# EAGLE library part EXPANDER (library library)
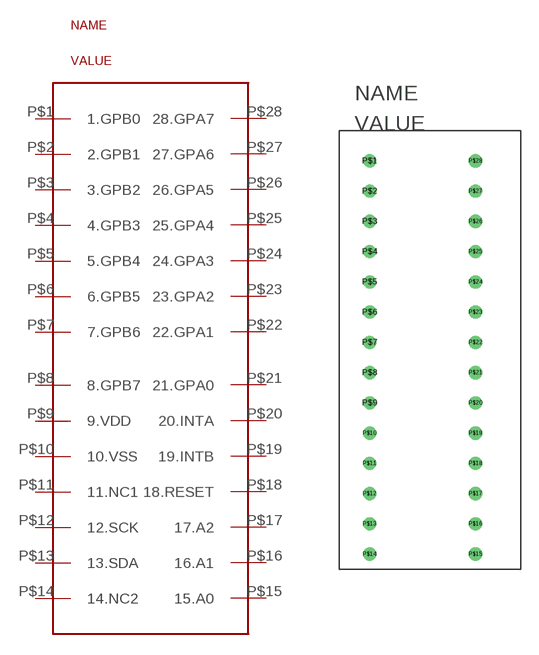
[diagram p10: symbol with the pads of EXPANDER; footprint EXPANDER]

Designator prefix -

## EXPANDER  [EXPANDER]
P$1  1.GPB0
P$2  2.GPB1
P$3  3.GPB2
P$4  4.GPB3
P$5  5.GPB4
P$6  6.GPB5
P$7  7.GPB6
P$8  8.GPB7
P$9  9.VDD
P$10  10.VSS
P$11  11.NC1
P$12  12.SCK
P$13  13.SDA
P$14  14.NC2
P$15  15.A0
P$16  16.A1
P$17  17.A2
P$18  18.RESET
P$19  19.INTB
P$20  20.INTA
P$21  21.GPA0
P$22  22.GPA1
P$23  23.GPA2
P$24  24.GPA3
P$25  25.GPA4
P$26  26.GPA5
P$27  27.GPA6
P$28  28.GPA7

## Footprint EXPANDER (pad centres in mm)
drill 0.6: P$1 -6.35,12.7; P$2 -6.35,10.16; P$3 -6.35,7.62; P$4 -6.35,5.08; P$5 -6.35,2.54; P$6 -6.35,0; P$7 -6.35,-2.54; P$8 -6.35,-5.08; P$9 -6.35,-7.62; P$10 -6.35,-10.16; P$11 -6.35,-12.7; P$12 -6.35,-15.24; P$13 -6.35,-17.78; P$14 -6.35,-20.32; P$15 2.54,-20.32; P$16 2.54,-17.78; P$17 2.54,-15.24; P$18 2.54,-12.7; P$19 2.54,-10.16; P$20 2.54,-7.62; P$21 2.54,-5.08; P$22 2.54,-2.54; P$23 2.54,0; P$24 2.54,2.54; P$25 2.54,5.08; P$26 2.54,7.62; P$27 2.54,10.16; P$28 2.54,12.7